# EAGLE library part 750845150 (library wurth_electronics_midcom_inc_v2-1)
Package Style: EE16/8/5 Mounting: THT Pins: 8 pins Bobbin: 070-5405 Best pinouts for production vary per application. Please contact Wurth Electronics Midcom, Inc. for assistance with your custom design. Website: Wurth Electronics Midcom <http://www.we-online.com/midcom> Contact us Wurth Electronics Midcom, Inc. 121 Airport Dr. Watertown, SD 57201 Phone: (605) 886-4385 Fax: (605) 886-4486 E-Mail: midcom@we-online.com
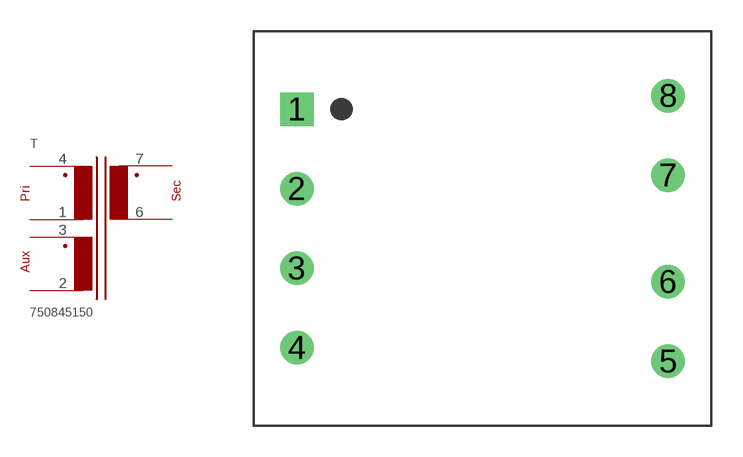
[diagram p137: symbol with the pads of EE16/8/5_THT_H_8PIN_(5405); footprint EE16/8/5_THT_H_8PIN_(5405)]

Designator prefix T

## 750845150  [EE16/8/5_THT_H_8PIN_(5405)]
1  1  pas
2  2  pas
3  3  pas
4  4  pas
6  6  pas
7  7  pas

## Footprint EE16/8/5_THT_H_8PIN_(5405) (pad centres in mm)
Package Style: EE16/8/5 Mounting: THT Pins: 8 Bobbin: 070-5405
drill 1.067 square: 1 -8.89,5.715
drill 1.067: 2 -8.89,1.905; 3 -8.89,-1.905; 4 -8.89,-5.715; 5 8.89,-6.363; 6 8.89,-2.553; 7 8.89,2.553; 8 8.89,6.363